# Altium schematic symbol library capacitor-0805.SchLib: 1 symbol
Pins are listed as number, name and electrical type; pins without a type are passive.

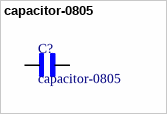
[diagram p0: symbol capacitor-0805]

## capacitor-0805
designator C?
footprint Capacitor-0805 (Ceramic Capacitor X5R 0805 (2012 Metric))
pins: 1, 2